# Altium footprint library TOTX1950AF.PcbLib: 1 footprints
Each footprint in its own frame and in the unit in brackets; x right, y up, seen from the top. Pads: shape width x height; smd on the part's side, far side on the other; paste and mask are expansions set on the pad; w line width, h text height; cw(c..) or ccw(c..) is an arc to the next point about the centre after c.
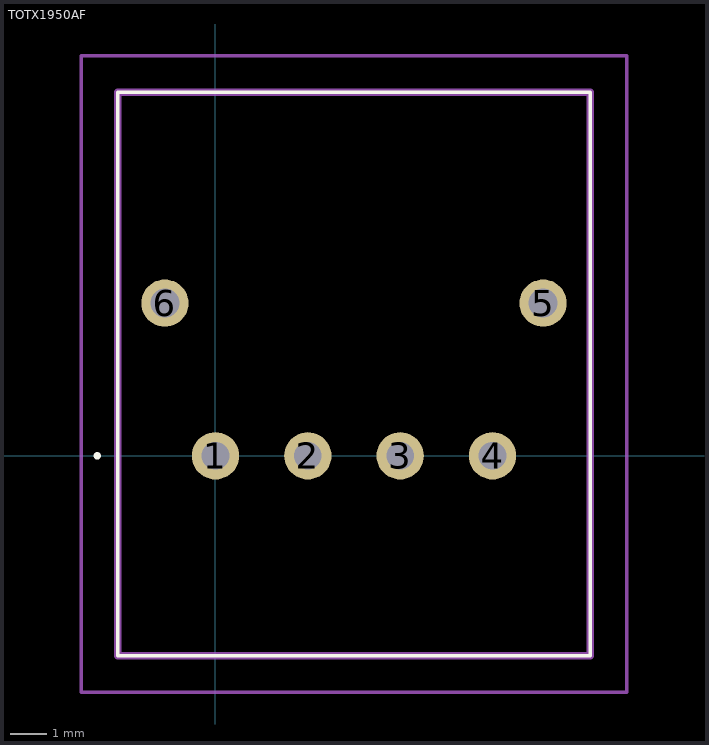
[diagram p0: the footprint, top view; thin cyan lines are the x and y axes]

## TOTX1950AF [mm]
pads (6):
  round 1.303 hole 0.76: 1(0,0) 2(2.54,0) 3(5.08,0) 4(7.62,0)
  round 1.3 hole 0.8: 5(9.01,4.2) 6(-1.39,4.2)
Top Overlay:
  lines w0.1: -3.3,0 cw(c-3.25,0) -3.2,0 ; -3.3,0 -3.3,0 ; -3.3,0 ccw(c-3.25,0) -3.2,0 ; -3.2,0 -3.2,0 ; -2.69,-5.5 10.31,-5.5 10.31,10 -2.69,10 -2.69,-5.5
Mechanical 15:
  lines w0.2: -2.69,-5.5 10.31,-5.5 10.31,10 -2.69,10 -2.69,-5.5
Mechanical 20:
  lines w0.1: -3.69,-6.5 11.31,-6.5 11.31,11 -3.69,11 -3.69,-6.5